# Altium footprint library Serial_IC.PcbLib: 12 footprints
Each footprint in its own frame and in the unit in brackets; x right, y up, seen from the top. Pads: shape width x height; smd on the part's side, far side on the other; paste and mask are expansions set on the pad; w line width, h text height; cw(c..) or ccw(c..) is an arc to the next point about the centre after c.
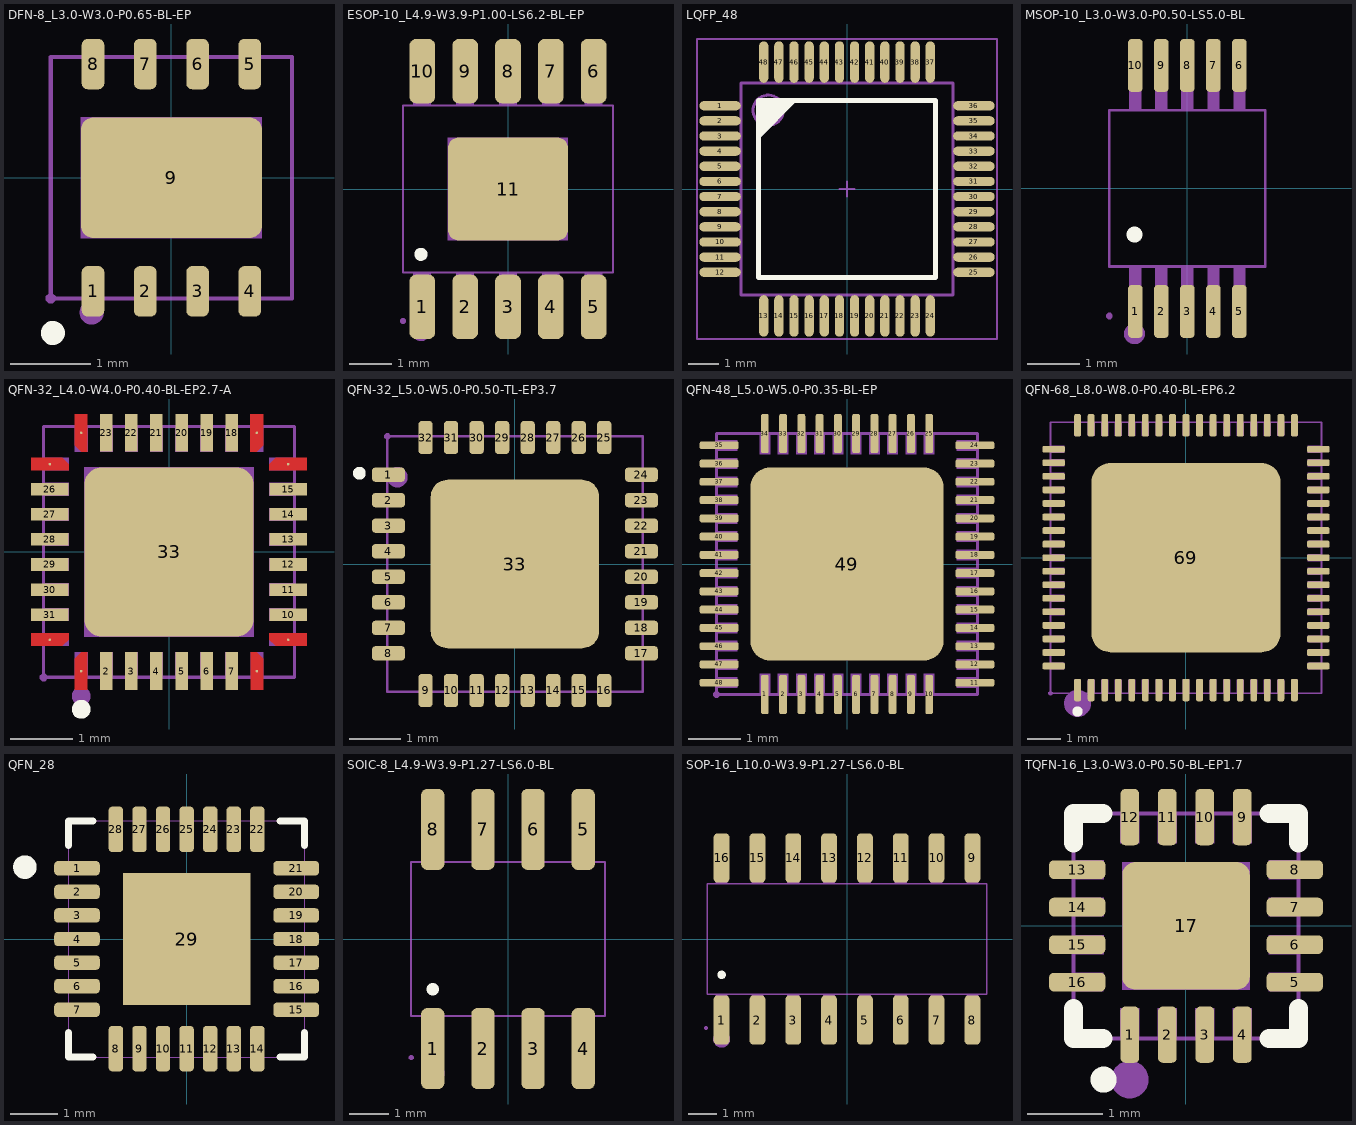
[diagram p0: the footprints below, top view; thin cyan lines are the x and y axes]

## DFN-8_L3.0-W3.0-P0.65-BL-EP [mm]
pads (9):
  rrect50% 0.28x0.625 smd paste+0.051 mask+0: 1(-0.975,-1.412) 2(-0.325,-1.412) 3(0.325,-1.412) 4(0.975,-1.412) 5(0.975,1.412) 6(0.325,1.412) 7(-0.325,1.412) 8(-0.975,1.412)
  rrect20% 2.25x1.5 smd paste+0.051 mask+0: 9(0,0)
Top Overlay:
  circle w0.15: c-1.473,-1.93 r0.075
Mechanical 2:
  circle w0.15: c-0.991,-1.676 r0.075
Mechanical 6:
  lines w0.051: -1.5,-1.5 -1.5,1.5 1.5,1.5 1.5,-1.5 -1.5,-1.5
Mechanical 8:
  region: -1.44,-1.5 -1.44,-1.525 -1.475,-1.56 -1.525,-1.56 -1.56,-1.525 -1.56,-1.5 -1.56,-1.475 -1.525,-1.44 -1.475,-1.44 -1.44,-1.475 -1.44,-1.5
Mechanical 9:
  region: -1.092,-1.5 -1.092,-1.125 -0.867,-1.125 -0.867,-1.5
  region: -0.436,-1.5 -0.436,-1.125 -0.211,-1.125 -0.211,-1.5
  region: 0.212,-1.5 0.212,-1.125 0.437,-1.125 0.437,-1.5
  region: 0.863,-1.5 0.863,-1.125 1.088,-1.125 1.088,-1.5
  region: 0.862,1.499 0.862,1.124 1.088,1.124 1.088,1.499
  region: 0.212,1.499 0.212,1.124 0.437,1.124 0.437,1.499
  region: -0.436,1.499 -0.436,1.124 -0.211,1.124 -0.211,1.499
  region: -1.092,1.499 -1.092,1.124 -0.867,1.124 -0.867,1.499
  region: -1.125,-0.75 -1.125,0.75 1.125,0.75 1.125,-0.75
3D body "DFN-8 3x3.step": height 1, standoff 0, extent -1.5,-1.525 1.5,1.525

## ESOP-10_L4.9-W3.9-P1.00-LS6.2-BL-EP [mm]
pads (11):
  rrect50% 0.6x1.5 smd: 1(-2,-2.75) 2(-1,-2.75) 3(0,-2.75) 4(1,-2.75) 5(2,-2.75) 6(2,2.75) 7(1,2.75) 8(0,2.75) 9(-1,2.75) 10(-2,2.75)
  rrect20% 2.8x2.4 smd: 11(0,0)
Top Overlay:
  circle w0.254: c-2.032,-1.524 r0.024
Mechanical 6:
  circle w0.2: c-2.03,-3.35 r0.1
Mechanical 15:
  region: -2.39,-3.08 -2.391,-3.056 -2.426,-3.021 -2.475,-3.021 -2.51,-3.056 -2.51,-3.08 -2.51,-3.105 -2.475,-3.139 -2.426,-3.139 -2.391,-3.105 -2.39,-3.08
  region: 2.2,-2.58 1.794,-2.58 1.794,-1.935 2.2,-1.935
  region: 2.2,-3.07 1.794,-3.07 1.794,-2.57 2.2,-2.57
  region: 1.2,-2.58 0.794,-2.58 0.794,-1.935 1.2,-1.935
  region: 1.203,-3.07 0.797,-3.07 0.797,-2.57 1.203,-2.57
  region: 0.2,-2.58 -0.206,-2.58 -0.206,-1.935 0.2,-1.935
  region: 0.203,-3.07 -0.203,-3.07 -0.203,-2.57 0.203,-2.57
  region: -0.8,-2.58 -1.206,-2.58 -1.206,-1.935 -0.8,-1.935
  region: -0.8,-3.07 -1.206,-3.07 -1.206,-2.57 -0.8,-2.57
  region: -1.8,-2.58 -2.206,-2.58 -2.206,-1.935 -1.8,-1.935
  region: -1.797,-3.07 -2.203,-3.07 -2.203,-2.57 -1.797,-2.57
  region: -1.8,1.94 -2.206,1.94 -2.206,2.585 -1.8,2.585
  region: -1.8,2.58 -2.206,2.58 -2.206,3.08 -1.8,3.08
  region: -0.8,1.94 -1.206,1.94 -1.206,2.585 -0.8,2.585
  region: -0.797,2.58 -1.203,2.58 -1.203,3.08 -0.797,3.08
  region: 0.2,1.94 -0.206,1.94 -0.206,2.585 0.2,2.585
  region: 0.203,2.58 -0.203,2.58 -0.203,3.08 0.203,3.08
  region: 1.2,1.94 0.794,1.94 0.794,2.585 1.2,2.585
  region: 1.203,2.58 0.797,2.58 0.797,3.08 1.203,3.08
  region: 2.2,1.94 1.794,1.94 1.794,2.585 2.2,2.585
  region: 2.203,2.58 1.797,2.58 1.797,3.08 2.203,3.08
  region: 1.4,-1.2 -1.4,-1.2 -1.4,1.2 1.4,1.2
  lines w0.051: -2.45,-1.95 2.45,-1.95 2.45,1.95 -2.45,1.95 -2.45,-1.95

## LQFP_48 [mil] "LQFP_48"
height 62.99
pads (48):
  oval 54x12 smd: 1(-165,108.27) 2(-165,88.58) 3(-165,68.9) 4(-165,49.21) 5(-165,29.53) 6(-165,9.84) 7(-165,-9.84) 8(-165,-29.53) 9(-165,-49.21) 10(-165,-68.9) 11(-165,-88.58) 12(-165,-108.27) 25(165,-108.27) 26(165,-88.58) 27(165,-68.9) 28(165,-49.21) 29(165,-29.53) 30(165,-9.84) 31(165,9.84) 32(165,29.53) 33(165,49.21) 34(165,68.9) 35(165,88.58) 36(165,108.27)
  oval 12x54 smd: 13(-108.27,-165) 14(-88.58,-165) 15(-68.9,-165) 16(-49.21,-165) 17(-29.53,-165) 18(-9.84,-165) 19(9.84,-165) 20(29.53,-165) 21(49.21,-165) 22(68.9,-165) 23(88.58,-165) 24(108.27,-165) 37(108.27,165) 38(88.58,165) 39(68.9,165) 40(49.21,165) 41(29.53,165) 42(9.84,165) 43(-9.84,165) 44(-29.53,165) 45(-49.21,165) 46(-68.9,165) 47(-88.58,165) 48(-108.27,165)
Top Overlay:
  region: -115,115 -65,115 -115,65
  lines w6: -115,-115 -115,115 115,115 115,-115 -115,-115
Mechanical 13:
  circle w3.94: c-102.36,102.36 r19.68
  lines w2: -10,0 10,0 ; 0,-10 0,10
  lines w3.94: -137.8,-137.8 -137.8,137.8 137.8,137.8 137.8,-137.8 -137.8,-137.8
Mechanical 14:
  lines w2: -195,-195 195,-195 195,195 -195,195 -195,-195
3D body "SW3dPS-Quad50M48.STEP": height 61.42, standoff 0, extent -177.16,-177.16 177.17,177.17

## MSOP-10_L3.0-W3.0-P0.50-LS5.0-BL [mm]
pads (10):
  rrect50% 0.28x1.016 smd: 1(-1,-2.364) 2(-0.5,-2.364) 3(0,-2.364) 4(0.5,-2.364) 5(1,-2.364) 6(1,2.364) 7(0.5,2.364) 8(0,2.364) 9(-0.5,2.364) 10(-1,2.364)
Top Overlay:
  circle w0.3: c-1.016,-0.889 r0.003
Mechanical 6:
  circle w0.2: c-1.016,-2.794 r0.1
Mechanical 15:
  region: -1.44,-2.45 -1.44,-2.425 -1.475,-2.39 -1.525,-2.39 -1.56,-2.425 -1.56,-2.45 -1.56,-2.475 -1.525,-2.51 -1.475,-2.51 -1.44,-2.475 -1.44,-2.45
  region: -1.112,-2.45 -1.112,-1.9 -0.888,-1.9 -0.888,-2.45
  region: -1.112,-1.91 -1.112,-1.49 -0.888,-1.49 -0.888,-1.91
  region: -0.612,-2.45 -0.612,-1.9 -0.388,-1.9 -0.388,-2.45
  region: -0.612,-1.91 -0.612,-1.49 -0.388,-1.49 -0.388,-1.91
  region: -0.112,-2.45 -0.112,-1.9 0.112,-1.9 0.112,-2.45
  region: -0.112,-1.91 -0.112,-1.49 0.112,-1.49 0.112,-1.91
  region: 0.388,-2.45 0.388,-1.9 0.612,-1.9 0.612,-2.45
  region: 0.388,-1.91 0.388,-1.49 0.612,-1.49 0.612,-1.91
  region: 0.888,-2.45 0.888,-1.9 1.112,-1.9 1.112,-2.45
  region: 0.888,-1.91 0.888,-1.49 1.112,-1.49 1.112,-1.91
  region: -1.112,2.45 -1.112,1.9 -0.888,1.9 -0.888,2.45
  region: -1.112,1.91 -1.112,1.49 -0.888,1.49 -0.888,1.91
  region: -0.612,2.45 -0.612,1.9 -0.388,1.9 -0.388,2.45
  region: -0.612,1.91 -0.612,1.49 -0.388,1.49 -0.388,1.91
  region: -0.112,2.45 -0.112,1.9 0.112,1.9 0.112,2.45
  region: -0.112,1.91 -0.112,1.49 0.112,1.49 0.112,1.91
  region: 0.388,2.45 0.388,1.9 0.612,1.9 0.612,2.45
  region: 0.388,1.91 0.388,1.49 0.612,1.49 0.612,1.91
  region: 0.888,2.45 0.888,1.9 1.112,1.9 1.112,2.45
  region: 0.888,1.91 0.888,1.49 1.112,1.49 1.112,1.91
  lines w0.051: -1.5,-1.5 -1.5,1.5 1.5,1.5 1.5,-1.5 -1.5,-1.5
3D body "MSOP-10 0.50p 3mm.step": height 1, standoff 0, extent -1.5,-2.45 1.5,2.45

## QFN-32_L4.0-W4.0-P0.40-BL-EP2.7-A [mm]
pads (33):
  round 0.04 smd: 1(-1.4,-1.9) 8(1.4,-1.9) 9(1.9,-1.4) 16(1.9,1.4) 17(1.4,1.9) 24(-1.4,1.9) 25(-1.9,1.4) 32(-1.9,-1.4)
  rect 0.2x0.6 smd paste-100 mask+0.05: 2(-1,-1.9) 3(-0.6,-1.9) 4(-0.2,-1.9) 5(0.2,-1.9) 6(0.6,-1.9) 7(1,-1.9) 18(1,1.9) 19(0.6,1.9) 20(0.2,1.9) 21(-0.2,1.9) 22(-0.6,1.9) 23(-1,1.9)
  rect 0.6x0.2 smd paste-100 mask+0.05: 10(1.9,-1) 11(1.9,-0.6) 12(1.9,-0.2) 13(1.9,0.2) 14(1.9,0.6) 15(1.9,1) 26(-1.9,1) 27(-1.9,0.6) 28(-1.9,0.2) 29(-1.9,-0.2) 30(-1.9,-0.6) 31(-1.9,-1)
  rrect20% 2.7x2.7 smd paste-100 mask+0.05: 33(0,0)
Top Layer:
  region: -1.375,2.2 -1.5,2.201 -1.5,1.7 -1.401,1.601 -1.401,1.6 -1.3,1.6 -1.3,2.2
  region: -2.201,1.5 -1.7,1.5 -1.601,1.401 -1.6,1.401 -1.6,1.3 -2.2,1.3 -2.2,1.375
  region: 1.5,2.201 1.5,1.7 1.4,1.601 1.4,1.6 1.3,1.6 1.3,2.2 1.374,2.2
  region: 2.201,1.5 1.7,1.5 1.601,1.4 1.6,1.4 1.6,1.3 2.2,1.3 2.2,1.374
  region: 2.201,-1.5 1.7,-1.5 1.601,-1.401 1.6,-1.401 1.6,-1.3 2.2,-1.3 2.2,-1.375
  region: 1.5,-2.201 1.5,-1.7 1.401,-1.601 1.401,-1.6 1.3,-1.6 1.3,-2.2 1.375,-2.2
  region: -1.5,-2.201 -1.5,-1.7 -1.401,-1.601 -1.401,-1.6 -1.3,-1.6 -1.3,-2.2 -1.375,-2.2
  region: -2.201,-1.5 -1.7,-1.5 -1.601,-1.401 -1.6,-1.401 -1.6,-1.3 -2.2,-1.3 -2.2,-1.375
Top Overlay:
  circle w0.15: c-1.4,-2.51 r0.075
Top Paste:
  drawing of 33 lines, arcs and shapes, not listed
Mechanical 2:
  circle w0.15: c-1.4,-2.3 r0.075
Mechanical 6:
  lines w0.051: -2,-2 -2,2 2,2 2,-2 -2,-2
Mechanical 8:
  region: -1.94,-2 -1.94,-2.025 -1.975,-2.06 -2.025,-2.06 -2.06,-2.025 -2.06,-2 -2.06,-1.975 -2.025,-1.94 -1.975,-1.94 -1.94,-1.975 -1.94,-2
Mechanical 9:
  drawing of 33 lines, arcs and shapes, not listed

## QFN-32_L5.0-W5.0-P0.50-TL-EP3.7 [mm]
pads (33):
  rrect50% 0.65x0.28 smd paste-100 mask+0.051: 1(-2.478,1.75) 2(-2.478,1.25) 3(-2.478,0.75) 4(-2.478,0.25) 5(-2.478,-0.25) 6(-2.478,-0.75) 7(-2.478,-1.25) 8(-2.478,-1.75) 17(2.478,-1.75) 18(2.478,-1.25) 19(2.478,-0.75) 20(2.478,-0.25) 21(2.478,0.25) 22(2.478,0.75) 23(2.478,1.25) 24(2.478,1.75)
  rrect50% 0.28x0.65 smd paste-100 mask+0.051: 9(-1.75,-2.478) 10(-1.25,-2.478) 11(-0.75,-2.478) 12(-0.25,-2.478) 13(0.25,-2.478) 14(0.75,-2.478) 15(1.25,-2.478) 16(1.75,-2.478) 25(1.75,2.478) 26(1.25,2.478) 27(0.75,2.478) 28(0.25,2.478) 29(-0.25,2.478) 30(-0.75,2.478) 31(-1.25,2.478) 32(-1.75,2.478)
  rrect20% 3.302x3.302 smd paste-100 mask+0.051: 33(0,0)
Top Overlay:
  circle w0.2: c-3.048,1.778 r0.025
Top Paste:
  drawing of 33 lines, arcs and shapes, not listed
Mechanical 6:
  circle w0.2: c-2.3,1.7 r0.1
Mechanical 15:
  drawing of 37 lines, arcs and shapes, not listed
3D body "User Library-VQFN-32.STEP": height 1.01, standoff 0, extent -2.56,-2.56 2.56,2.56

## QFN-48_L5.0-W5.0-P0.35-BL-EP [mm]
pads (49):
  rrect50% 0.15x0.75 smd paste-100 mask+0.051: 1(-1.575,-2.5) 2(-1.225,-2.5) 3(-0.875,-2.5) 4(-0.525,-2.5) 5(-0.175,-2.5) 6(0.175,-2.5) 7(0.525,-2.5) 8(0.875,-2.5) 9(1.225,-2.5) 10(1.575,-2.5) 25(1.575,2.5) 26(1.225,2.5) 27(0.875,2.5) 28(0.525,2.5) 29(0.175,2.5) 30(-0.175,2.5) 31(-0.525,2.5) 32(-0.875,2.5) 33(-1.225,2.5) 34(-1.575,2.5)
  rrect50% 0.75x0.15 smd paste-100 mask+0.051: 11(2.45,-2.275) 12(2.45,-1.925) 13(2.45,-1.575) 14(2.45,-1.225) 15(2.45,-0.875) 16(2.45,-0.525) 17(2.45,-0.175) 18(2.45,0.175) 19(2.45,0.525) 20(2.45,0.875) 21(2.45,1.225) 22(2.45,1.575) 23(2.45,1.925) 24(2.45,2.275) 35(-2.45,2.275) 36(-2.45,1.925) 37(-2.45,1.575) 38(-2.45,1.225) 39(-2.45,0.875) 40(-2.45,0.525) 41(-2.45,0.175) 42(-2.45,-0.175) 43(-2.45,-0.525) 44(-2.45,-0.875) 45(-2.45,-1.225) 46(-2.45,-1.575) 47(-2.45,-1.925) 48(-2.45,-2.275)
  rrect20% 3.7x3.7 smd paste-100 mask+0.051: 49(0,0)
Top Paste:
  drawing of 49 lines, arcs and shapes, not listed
Mechanical 6:
  lines w0.051: -2.5,-2.5 -2.5,2.5 2.5,2.5 2.5,-2.5 -2.5,-2.5
Mechanical 8:
  region: -2.44,-2.5 -2.44,-2.525 -2.475,-2.56 -2.525,-2.56 -2.56,-2.525 -2.56,-2.5 -2.56,-2.475 -2.525,-2.44 -2.475,-2.44 -2.44,-2.475 -2.44,-2.5
Mechanical 9:
  drawing of 49 lines, arcs and shapes, not listed

## QFN-68_L8.0-W8.0-P0.40-BL-EP6.2 [mm]
pads (69):
  rrect50% 0.2x0.665 smd paste-100 mask+0.051: 1(-3.2,-3.908) 2(-2.8,-3.908) 3(-2.4,-3.908) 4(-2,-3.908) 5(-1.6,-3.908) 6(-1.2,-3.908) 7(-0.8,-3.908) 8(-0.4,-3.908) 9(0,-3.908) 10(0.4,-3.908) 11(0.8,-3.908) 12(1.2,-3.908) 13(1.6,-3.908) 14(2,-3.908) 15(2.4,-3.908) 16(2.8,-3.908) 17(3.2,-3.908) 35(3.2,3.908) 36(2.8,3.908) 37(2.4,3.908) 38(2,3.908) 39(1.6,3.908) 40(1.2,3.908) 41(0.8,3.908) 42(0.4,3.908) 43(0,3.908) 44(-0.4,3.908) 45(-0.8,3.908) 46(-1.2,3.908) 47(-1.6,3.908) 48(-2,3.908) 49(-2.4,3.908) 50(-2.8,3.908) 51(-3.2,3.908)
  rrect50% 0.665x0.2 smd paste-100 mask+0.051: 18(3.908,-3.2) 19(3.908,-2.8) 20(3.908,-2.4) 21(3.908,-2) 22(3.908,-1.6) 23(3.908,-1.2) 24(3.908,-0.8) 25(3.908,-0.4) 26(3.908,0) 27(3.908,0.4) 28(3.908,0.8) 29(3.908,1.2) 30(3.908,1.6) 31(3.908,2) 32(3.908,2.4) 33(3.908,2.8) 34(3.908,3.2) 52(-3.908,3.2) 53(-3.908,2.8) 54(-3.908,2.4) 55(-3.908,2) 56(-3.908,1.6) 57(-3.908,1.2) 58(-3.908,0.8) 59(-3.908,0.4) 60(-3.908,0) 61(-3.908,-0.4) 62(-3.908,-0.8) 63(-3.908,-1.2) 64(-3.908,-1.6) 65(-3.908,-2) 66(-3.908,-2.4) 67(-3.908,-2.8) 68(-3.908,-3.2)
  rrect20% 5.588x5.588 smd paste-100 mask+0.051: 69(0,0)
Top Overlay:
  circle w0.15: c-3.2,-4.54 r0.075
Top Paste:
  drawing of 69 lines, arcs and shapes, not listed
Mechanical 2:
  circle w0.4: c-3.2,-4.3 r0.2
Mechanical 6:
  lines w0.051: -4,-4 4,-4 4,4 -4,4 -4,-4
Mechanical 8:
  region: -3.94,-4 -3.94,-4.025 -3.975,-4.06 -4.025,-4.06 -4.06,-4.025 -4.06,-4 -4.06,-3.975 -4.025,-3.94 -3.975,-3.94 -3.94,-3.975 -3.94,-4
Mechanical 9:
  drawing of 68 lines, arcs and shapes, not listed

## QFN_28 [mil] "QFN_28"
height 169.29
pads (29):
  rrect50% 38x12 smd mask+5: 1(-91.5,59.06) 2(-91.5,39.37) 3(-91.5,19.68) 4(-91.5,0) 5(-91.5,-19.68) 6(-91.5,-39.37) 7(-91.5,-59.06) 15(91.5,-59.06) 16(91.5,-39.37) 17(91.5,-19.68) 18(91.5,0) 19(91.5,19.68) 20(91.5,39.37) 21(91.5,59.06)
  rrect50% 12x38 smd mask+5: 8(-59.06,-91.5) 9(-39.37,-91.5) 10(-19.68,-91.5) 11(0,-91.5) 12(19.68,-91.5) 13(39.37,-91.5) 14(59.06,-91.5) 22(59.06,91.5) 23(39.37,91.5) 24(19.68,91.5) 25(0,91.5) 26(-19.68,91.5) 27(-39.37,91.5) 28(-59.06,91.5)
  rect 106.3x110.24 smd: 29(0,0)
Top Overlay:
  circle w9.84: c-135,60 r4.92
  lines w6: -98.5,-78.16 -98.5,-98.5 -78.16,-98.5 ; -98.5,78.16 -98.5,98.5 -78.16,98.5 ; 78.16,-98.5 98.5,-98.5 98.5,-78.16 ; 78.16,98.5 98.5,98.5 98.5,78.16
Mechanical 1:
  lines w0: -98.5,-98.5 98.5,-98.5 98.5,98.5 -98.5,98.5 -98.5,-98.5 ; -98.5,-65.06 -98.5,-53.06 -98.5,-65.06 ; -98.5,-45.37 -98.5,-33.37 -98.5,-45.37 ; -98.5,-25.68 -98.5,-13.69 -98.5,-25.68 ; -98.5,-6 -98.5,6 -98.5,-6 ; -98.5,13.69 -98.5,25.68 -98.5,13.69 ; -98.5,33.37 -98.5,45.37 -98.5,33.37 ; -98.5,53.06 -98.5,65.06 -98.5,53.06 ; -65.06,-98.5 -53.06,-98.5 -65.06,-98.5 ; -65.06,98.5 -53.06,98.5 -65.06,98.5 ; -45.37,-98.5 -33.37,-98.5 -45.37,-98.5 ; -45.37,98.5 -33.37,98.5 -45.37,98.5 ; -25.68,-98.5 -13.69,-98.5 -25.68,-98.5 ; -25.68,98.5 -13.69,98.5 -25.68,98.5 ; -6,-98.5 6,-98.5 -6,-98.5 ; -6,98.5 6,98.5 -6,98.5 ; 13.69,-98.5 25.68,-98.5 13.69,-98.5 ; 13.69,98.5 25.68,98.5 13.69,98.5 ; 33.37,-98.5 45.37,-98.5 33.37,-98.5 ; 33.37,98.5 45.37,98.5 33.37,98.5 ; 53.06,-98.5 65.06,-98.5 53.06,-98.5 ; 53.06,98.5 65.06,98.5 53.06,98.5 ; 98.5,-65.06 98.5,-53.06 98.5,-65.06 ; 98.5,-45.37 98.5,-33.37 98.5,-45.37 ; 98.5,-25.68 98.5,-13.69 98.5,-25.68 ; 98.5,-6 98.5,6 98.5,-6 ; 98.5,13.69 98.5,25.68 98.5,13.69 ; 98.5,33.37 98.5,45.37 98.5,33.37 ; 98.5,53.06 98.5,65.06 98.5,53.06
3D body "321.stp": height 35.43, standoff 0, extent -98.5,-98.5 98.35,98.35

## SOIC-8_L4.9-W3.9-P1.27-LS6.0-BL [mm]
pads (8):
  rrect50% 0.588x2.045 smd paste+0 mask+0.051: 1(-1.905,-2.772) 2(-0.635,-2.772) 3(0.635,-2.772) 4(1.905,-2.772) 5(1.905,2.772) 6(0.635,2.772) 7(-0.635,2.772) 8(-1.905,2.772)
Top Overlay:
  circle w0.3: c-1.905,-1.27 r0.007
Mechanical 6:
  circle w0.3: c-1.905,-3.4 r0.15
Mechanical 15:
  region: 1.695,2.175 1.695,1.94 2.115,1.94 2.115,2.175
  region: 1.695,3 1.695,2.165 2.115,2.165 2.115,3
  region: 0.425,2.175 0.425,1.94 0.845,1.94 0.845,2.175
  region: 0.425,3 0.425,2.165 0.845,2.165 0.845,3
  region: -0.845,2.175 -0.845,1.94 -0.425,1.94 -0.425,2.175
  region: -0.845,3 -0.845,2.165 -0.425,2.165 -0.425,3
  region: -2.115,2.175 -2.115,1.94 -1.695,1.94 -1.695,2.175
  region: -2.115,3 -2.115,2.165 -1.695,2.165 -1.695,3
  region: 1.695,-2.175 1.695,-1.94 2.115,-1.94 2.115,-2.175
  region: 1.695,-3 1.695,-2.165 2.115,-2.165 2.115,-3
  region: 0.425,-2.175 0.425,-1.94 0.845,-1.94 0.845,-2.175
  region: 0.425,-3 0.425,-2.165 0.845,-2.165 0.845,-3
  region: -0.845,-2.175 -0.845,-1.94 -0.425,-1.94 -0.425,-2.175
  region: -0.845,-3 -0.845,-2.165 -0.425,-2.165 -0.425,-3
  region: -2.115,-2.175 -2.115,-1.94 -1.695,-1.94 -1.695,-2.175
  region: -2.115,-3 -2.115,-2.165 -1.695,-2.165 -1.695,-3
  region: -2.39,-3 -2.39,-2.975 -2.425,-2.94 -2.475,-2.94 -2.51,-2.975 -2.51,-3 -2.51,-3.025 -2.475,-3.06 -2.425,-3.06 -2.39,-3.025 -2.39,-3
  lines w0.051: -2.45,-1.95 2.45,-1.95 2.45,1.95 -2.45,1.95 -2.45,-1.95
3D body "SOIC8.STEP": height 1.5, standoff 0, extent -2.45,-2.95 2.45,2.95

## SOP-16_L10.0-W3.9-P1.27-LS6.0-BL [mm]
pads (16):
  rrect50% 0.56x1.745 smd: 1(-4.445,-2.872) 2(-3.175,-2.872) 3(-1.905,-2.872) 4(-0.635,-2.872) 5(0.635,-2.872) 6(1.905,-2.872) 7(3.175,-2.872) 8(4.445,-2.872) 9(4.445,2.872) 10(3.175,2.872) 11(1.905,2.872) 12(0.635,2.872) 13(-0.635,2.872) 14(-1.905,2.872) 15(-3.175,2.872) 16(-4.445,2.872)
Top Overlay:
  circle w0.3: c-4.445,-1.27 r0.003
Mechanical 6:
  circle w0.3: c-4.445,-3.55 r0.15
Mechanical 15:
  drawing of 37 lines, arcs and shapes, not listed

## TQFN-16_L3.0-W3.0-P0.50-BL-EP1.7 [mm]
pads (17):
  rrect50% 0.25x0.75 smd paste-100 mask+0.051: 1(-0.748,-1.45) 2(-0.249,-1.45) 3(0.252,-1.45) 4(0.751,-1.45) 9(0.75,1.45) 10(0.25,1.45) 11(-0.25,1.45) 12(-0.749,1.45)
  rrect50% 0.75x0.25 smd paste-100 mask+0.051: 5(1.45,-0.75) 6(1.45,-0.25) 7(1.45,0.25) 8(1.45,0.75) 13(-1.45,0.75) 14(-1.45,0.25) 15(-1.45,-0.25) 16(-1.45,-0.75)
  rrect20% 1.7x1.7 smd paste-100 mask+0.051: 17(0,0)
Top Overlay:
  circle w0.254: c-1.1,-2.05 r0.047
  lines w0.254: -1.5,-1.104 -1.5,-1.5 -1.105,-1.5 ; -1.5,1.108 -1.5,1.5 -1.105,1.5 ; 1.106,1.5 1.5,1.5 1.5,1.108 ; 1.108,-1.5 1.5,-1.5 1.5,-1.104
Top Paste:
  region: 0.876,-1.075 0.626,-1.075 0.626,-1.825 0.876,-1.825
  region: 0.377,-1.075 0.127,-1.075 0.127,-1.825 0.377,-1.825
  region: -0.124,-1.075 -0.374,-1.075 -0.374,-1.825 -0.124,-1.825
  region: -0.623,-1.075 -0.873,-1.075 -0.873,-1.825 -0.623,-1.825
  region: 0.876,1.825 0.626,1.825 0.626,1.075 0.876,1.075
  region: 0.376,1.825 0.126,1.825 0.126,1.075 0.376,1.075
  region: -0.124,1.825 -0.374,1.825 -0.374,1.075 -0.124,1.075
  region: -0.624,1.825 -0.874,1.825 -0.874,1.075 -0.624,1.075
  region: 1.825,-0.875 1.825,-0.625 1.075,-0.625 1.075,-0.875
  region: 1.825,-0.375 1.825,-0.125 1.075,-0.125 1.075,-0.375
  region: 1.825,0.125 1.825,0.375 1.075,0.375 1.075,0.125
  region: 1.825,0.625 1.825,0.875 1.075,0.875 1.075,0.625
  region: -1.075,-0.875 -1.075,-0.625 -1.825,-0.625 -1.825,-0.875
  region: -1.075,-0.375 -1.075,-0.125 -1.825,-0.125 -1.825,-0.375
  region: -1.075,0.125 -1.075,0.375 -1.825,0.375 -1.825,0.125
  region: -1.075,0.625 -1.075,0.875 -1.825,0.875 -1.825,0.625
  region: -0.68,0.68 0.68,0.68 0.68,-0.68 -0.68,-0.68
Mechanical 6:
  circle w0.25: c-0.75,-2.05 r0.125
Mechanical 15:
  region: -0.85,0.85 0.85,0.85 0.85,-0.85 -0.85,-0.85
  region: -0.623,-1.5 -0.873,-1.5 -0.873,-1.1 -0.623,-1.1
  region: -0.124,-1.5 -0.374,-1.5 -0.374,-1.1 -0.124,-1.1
  region: 0.377,-1.5 0.127,-1.5 0.127,-1.1 0.377,-1.1
  region: 0.876,-1.5 0.626,-1.5 0.626,-1.1 0.876,-1.1
  region: 1.1,-0.875 1.1,-0.625 1.5,-0.625 1.5,-0.875
  region: 1.1,-0.375 1.1,-0.125 1.5,-0.125 1.5,-0.375
  region: 1.1,0.125 1.1,0.375 1.5,0.375 1.5,0.125
  region: 1.1,0.625 1.1,0.875 1.5,0.875 1.5,0.625
  region: 0.625,1.5 0.875,1.5 0.875,1.1 0.625,1.1
  region: 0.125,1.5 0.375,1.5 0.375,1.1 0.125,1.1
  region: -0.374,1.5 -0.124,1.5 -0.124,1.1 -0.374,1.1
  region: -0.874,1.5 -0.624,1.5 -0.624,1.1 -0.874,1.1
  region: -1.1,0.875 -1.1,0.625 -1.5,0.625 -1.5,0.875
  region: -1.1,0.375 -1.1,0.125 -1.5,0.125 -1.5,0.375
  region: -1.1,-0.125 -1.1,-0.375 -1.5,-0.375 -1.5,-0.125
  region: -1.1,-0.625 -1.1,-0.875 -1.5,-0.875 -1.5,-0.625
  region: -1.44,-1.5 -1.44,-1.475 -1.475,-1.44 -1.525,-1.44 -1.56,-1.475 -1.56,-1.5 -1.56,-1.525 -1.525,-1.56 -1.475,-1.56 -1.44,-1.525 -1.44,-1.5
  lines w0.051: -1.5,-1.5 -1.5,1.5 1.5,1.5 1.5,-1.5 -1.5,-1.5